# Altium footprint library SOCKETFPC16P-0.5.PcbLib: 1 footprints
Each footprint in its own frame and in the unit in brackets; x right, y up, seen from the top. Pads: shape width x height; smd on the part's side, far side on the other; paste and mask are expansions set on the pad; w line width, h text height; cw(c..) or ccw(c..) is an arc to the next point about the centre after c.
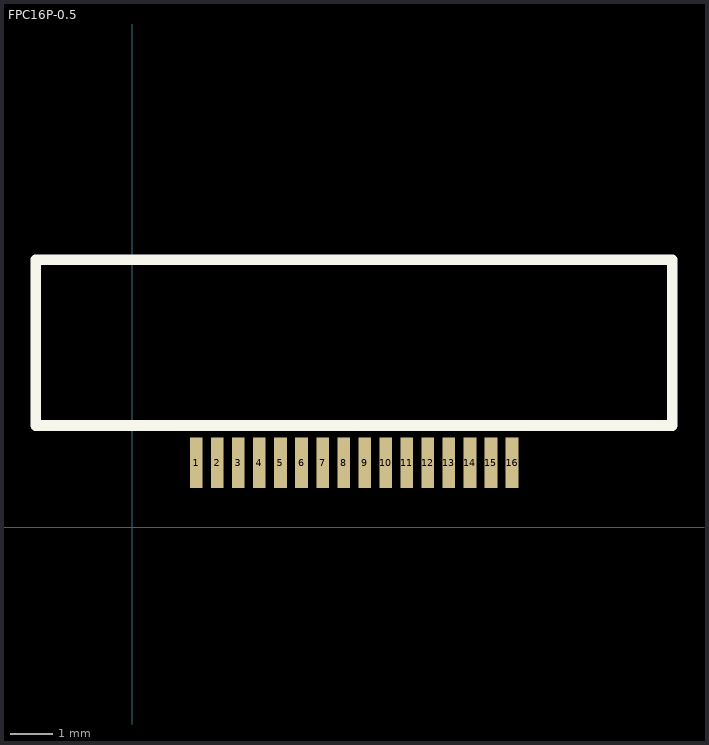
[diagram p0: the footprint, top view; thin cyan lines are the x and y axes]

## FPC16P-0.5 [mm]
pads (16):
  rect 0.3x1.2 smd: 1(1.524,1.524) 2(2.024,1.524) 3(2.524,1.524) 4(3.024,1.524) 5(3.524,1.524) 6(4.024,1.524) 7(4.524,1.524) 8(5.024,1.524) 9(5.524,1.524) 10(6.024,1.524) 11(6.524,1.524) 12(7.024,1.524) 13(7.524,1.524) 14(8.024,1.524) 15(8.524,1.524) 16(9.024,1.524)
Top Overlay:
  lines w0.254: -2.286,2.413 12.827,2.413 12.827,6.35 -2.286,6.35 -2.286,2.413